# Altium footprint library BQ24195LRGER.PcbLib: 1 footprints
Each footprint in its own frame and in the unit in brackets; x right, y up, seen from the top. Pads: shape width x height; smd on the part's side, far side on the other; paste and mask are expansions set on the pad; w line width, h text height; cw(c..) or ccw(c..) is an arc to the next point about the centre after c.
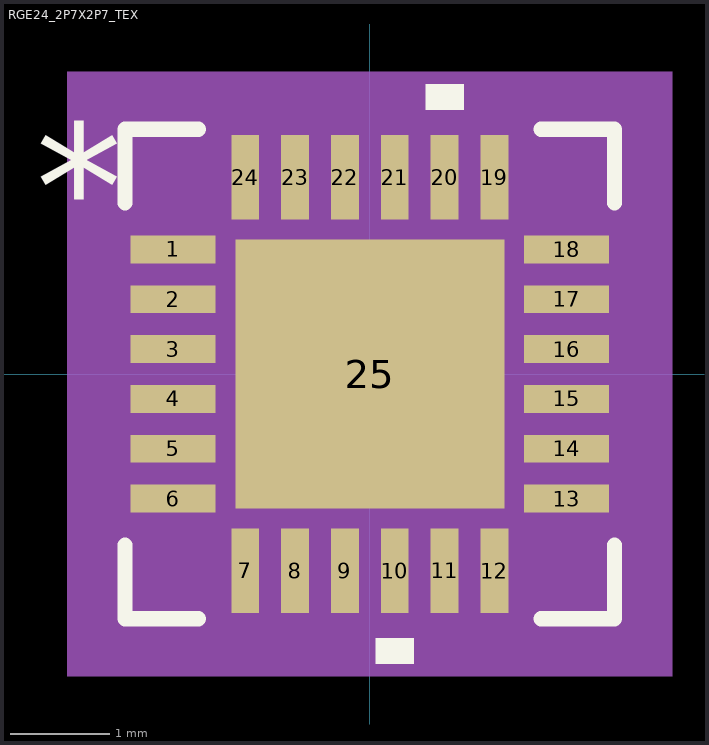
[diagram p0: the footprint, top view; thin cyan lines are the x and y axes]

## RGE24_2P7X2P7_TEX [mm]
pads (25):
  rect 0.85x0.28 smd paste+0 mask+0: 1(-1.975,1.25) 2(-1.975,0.75) 3(-1.975,0.25) 4(-1.975,-0.25) 5(-1.975,-0.75) 6(-1.975,-1.25) 13(1.975,-1.25) 14(1.975,-0.75) 15(1.975,-0.25) 16(1.975,0.25) 17(1.975,0.75) 18(1.975,1.25)
  rect 0.28x0.85 smd paste+0 mask+0: 7(-1.25,-1.975) 8(-0.75,-1.975) 9(-0.25,-1.975) 10(0.25,-1.975) 11(0.75,-1.975) 12(1.25,-1.975) 19(1.25,1.975) 20(0.75,1.975) 21(0.25,1.975) 22(-0.25,1.975) 23(-0.75,1.975) 24(-1.25,1.975)
  rect 2.7x2.7 smd paste-1.35 mask-1.333: 25(0,0)
Top Overlay:
  region: 0.441,-2.654 0.06,-2.654 0.06,-2.908 0.441,-2.908
  region: 0.941,2.654 0.56,2.654 0.56,2.908 0.941,2.908
  lines w0.152: -2.456,-1.718 -2.456,-2.456 -1.718,-2.456 ; -2.456,1.718 -2.456,2.456 -1.718,2.456 ; 1.718,-2.456 2.456,-2.456 2.456,-1.718 ; 1.718,2.456 2.456,2.456 2.456,1.718
  text "*" at -3.353,1.246 h1.27
Top Paste:
  drawing of 16 lines, arcs and shapes, not listed
Top Solder:
  region: -1.413,0.987 -1.413,1.413 1.413,1.413 1.413,0.987
  region: -1.413,0.2 -1.413,0.587 1.413,0.587 1.413,0.2
  region: -1.413,-0.587 -1.413,-0.2 1.413,-0.2 1.413,-0.587
  region: -1.413,-1.413 -1.413,-0.987 1.413,-0.987 1.413,-1.413
  region: -1.413,-1.413 -1.413,1.413 -0.987,1.413 -0.987,-1.413
  region: -0.2,-1.413 -0.2,1.413 -0.587,1.413 -0.587,-1.413
  region: 0.587,-1.413 0.587,1.413 0.2,1.413 0.2,-1.413
  region: 0.987,-1.413 0.987,1.413 1.413,1.413 1.413,-1.413
Mechanical 5:
  region: 3.035,-3.035 -3.035,-3.035 -3.035,3.035 3.035,3.035
Mechanical 13:
  lines w0.025: -2.075,0.805 -0.805,2.075 ; -2.075,-2.075 2.075,-2.075 2.075,2.075 -2.075,2.075 -2.075,-2.075
  text "*" at -1.613,0.865 h1.27
Mechanical 15:
  region: -1.644,-2.329 -2.329,-2.329 -2.329,-1.644 -2.654,-1.644 -2.654,1.644 -2.329,1.644 -2.329,2.329 -1.644,2.329 -1.644,2.654 1.644,2.654 1.644,2.329 2.329,2.329 2.329,1.644 2.654,1.644 2.654,-1.644 2.329,-1.644 2.329,-2.329 1.644,-2.329 1.644,-2.654 -1.644,-2.654
  lines w0.152: -2.654,-1.644 -2.329,-1.644 -2.329,-2.329 -1.644,-2.329 -1.644,-2.654 1.644,-2.654 1.644,-2.329 2.329,-2.329 2.329,-1.644 2.654,-1.644 2.654,1.644 2.329,1.644 2.329,2.329 1.644,2.329 1.644,2.654 -1.644,2.654 -1.644,2.329 -2.329,2.329 -2.329,1.644 -2.654,1.644 -2.654,-1.644
Via Holes:
  circle w0.127: c-0.787,-0.787 r0.191
  circle w0.127: c-0.787,0 r0.191
  circle w0.127: c-0.787,0.787 r0.191
  circle w0.127: c0,-0.787 r0.191
  circle w0.127: c0,0 r0.191
  circle w0.127: c0,0.787 r0.191
  circle w0.127: c0.787,-0.787 r0.191
  circle w0.127: c0.787,0 r0.191
  circle w0.127: c0.787,0.787 r0.191
3D body "RGE24_2P7X2P7_TEX.step": height 1, standoff 0, extent -2.126,-2.126 2.126,2.126